# Altium footprint library A20_DVK1_BASE_V16.PcbLib: 45 footprints (part 1 of 3)
Each footprint in its own frame and in the unit in brackets; x right, y up, seen from the top. Pads: shape width x height; smd on the part's side, far side on the other; paste and mask are expansions set on the pad; w line width, h text height; cw(c..) or ccw(c..) is an arc to the next point about the centre after c.
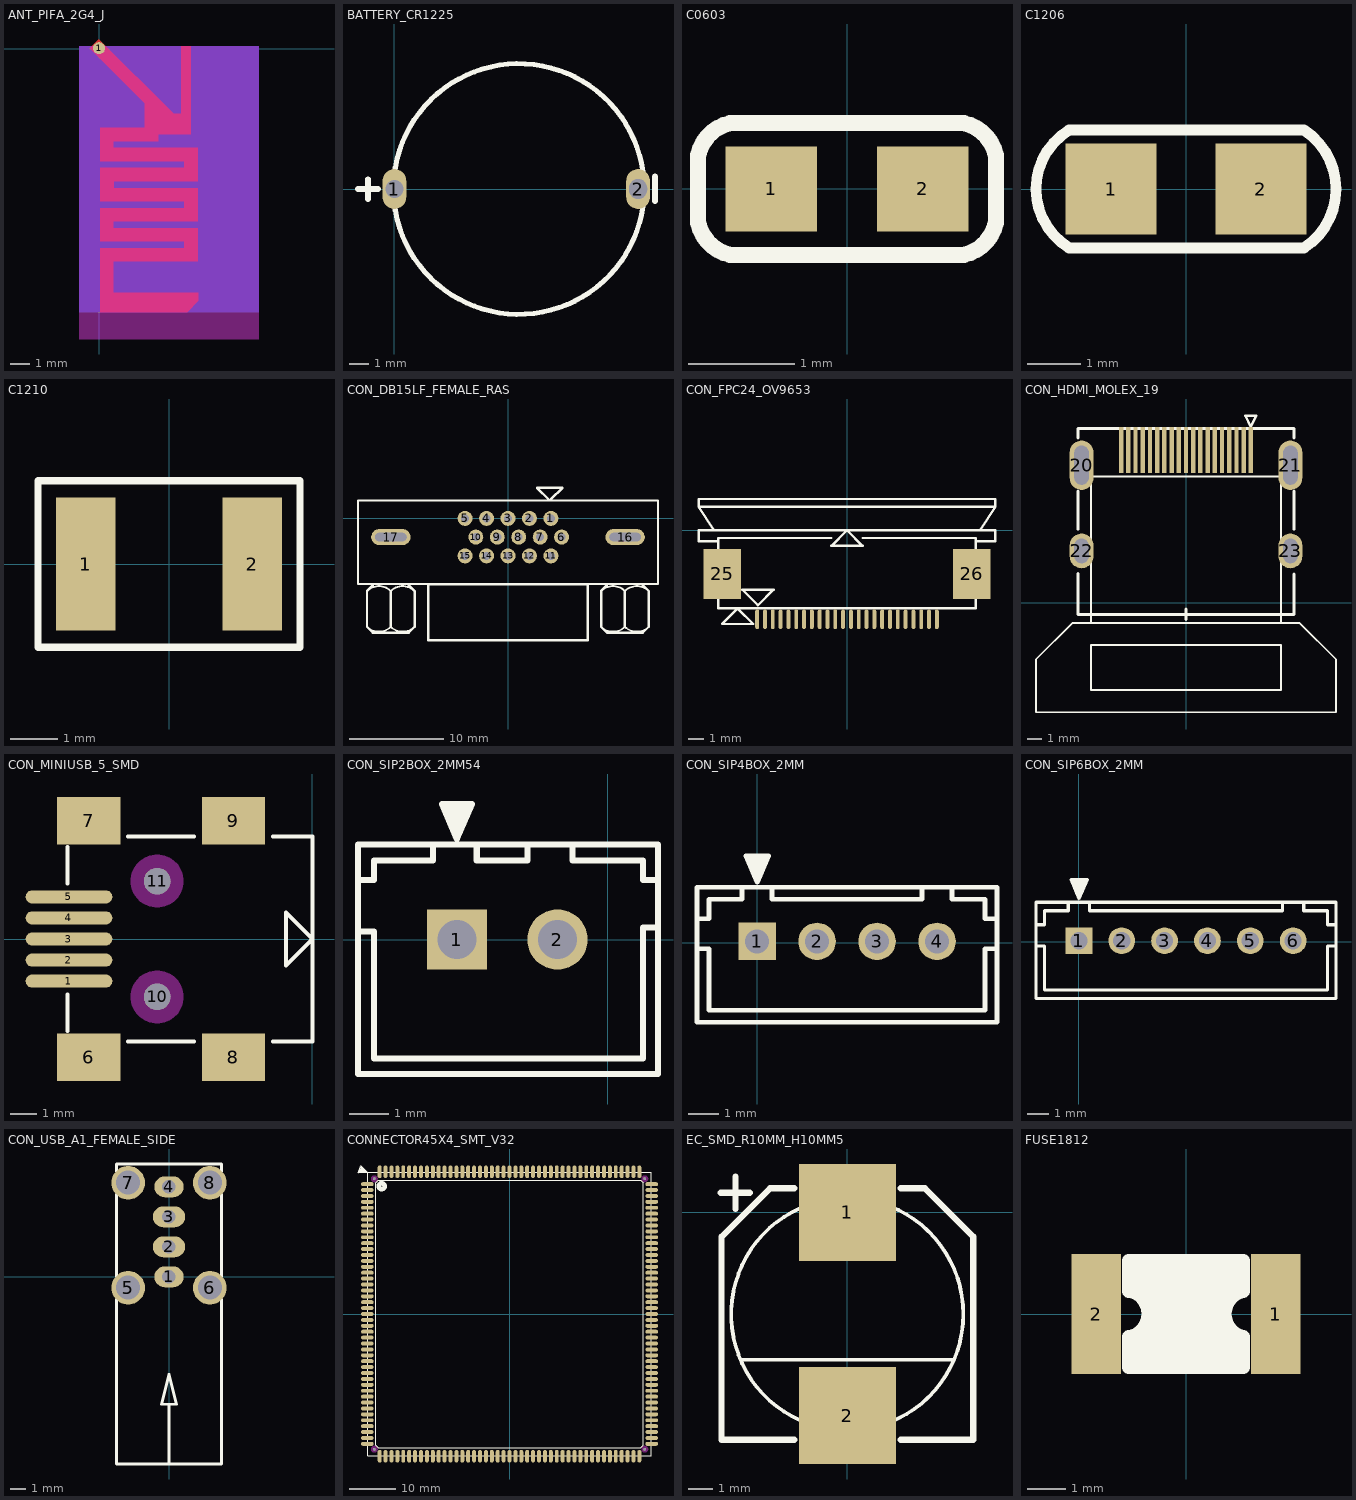
[diagram p0: the footprints below, top view; thin cyan lines are the x and y axes]

## ANT_PIFA_2G4_J [mil]
pads (1):
  round 25 smd: 1(0,1)
Top Layer:
  region: 169.88,4.87 189.85,4.87 189.85,-177.12 122.46,-177.12 122.46,-191.11 29.56,-191.11 29.56,-205.11 203.85,-205.11 203.85,-274.27 29.87,-274.27 29.87,-288.28 203.83,-288.28 203.83,-356.75 29.73,-356.75 29.73,-371.14 203.58,-371.14 203.58,-439.63 29.6,-439.63 29.6,-504.1 205.44,-504.1 205.44,-521.19 182.18,-544.45 2.07,-544.45 2.07,-412.66 176.34,-412.66 176.34,-398.28 2.12,-398.28 2.12,-329.74 176.51,-329.74 176.51,-315.77 2.3,-315.77 2.3,-246.51 176.4,-246.51 176.4,-232.71 2.16,-232.71 2.16,-163.54 94.66,-163.54 94.66,-112.48 -19.01,1.19 -0.38,19.82 154.46,-135.02 169.88,-135.02
Bottom Layer:
  region: -41,5 330,5 330,-545 -41,-545
Keep-Out Layer:
  region: -41,5 330,5 330,-600 -41,-600

## BATTERY_CR1225 [mm]
pads (2):
  oval 1.2x2 / inner oval 1x2 / far side oval 1.8x2.2 hole 0.9: 1(0,0)
  oval 1.2x2 / inner oval 1x2 / far side oval 1.8x2.2 hole 0.9 slot 1 at 90 deg: 2(12.25,0)
Top Overlay:
  circle w0.254: c6.25,0 r6.3
  lines w0.3: -1.83,-0.01 -0.83,-0.01 ; -1.33,-0.51 -1.33,0.49 ; 13.1,-0.604 13.1,0.627

## C0603 [mm]
pads (2):
  rect 0.86x0.8 smd: 1(-0.71,0) 2(0.71,0)
Top Overlay:
  lines w0.152: -1.4,-0.32 ccw(c-1.01,-0.23) -1.1,-0.62 1.1,-0.62 ccw(c1.01,-0.23) 1.4,-0.32 1.4,0.32 ccw(c1.01,0.23) 1.1,0.62 -1.1,0.62 ccw(c-1.01,0.23) -1.4,0.32 -1.4,-0.32

## C1206 [mm]
pads (2):
  rect 1.7x1.7 smd: 1(-1.4,0) 2(1.4,0)
Top Overlay:
  lines w0.203: -2.182,1.099 ccw(c-1.513,0) -2.18,-1.101 ; -2.181,-1.1 2.201,-1.1 ; -2.181,1.1 2.201,1.1 ; 2.2,-1.101 ccw(c1.491,0) 2.202,1.099

## C1210 [mm]
pads (2):
  rect 1.25x2.8 smd: 1(-1.75,0) 2(1.75,0)
Top Overlay:
  lines w0.152: -2.75,-1.75 2.75,-1.75 2.75,1.75 -2.75,1.75 -2.75,-1.75

## CON_DB15LF_FEMALE_RAS [mm]
pads (17):
  round 1.6 / inner round 1.6 / far side rect 1.6x1.6 hole 0.85: 1(4.58,0)
  round 1.6 hole 0.85: 2(2.29,0) 3(0,0) 4(-2.29,0) 5(-4.58,0) 6(5.725,-2) 7(3.435,-2) 8(1.145,-2) 9(-1.145,-2) 10(-3.435,-2) 11(4.58,-4) 12(2.29,-4) 13(0,-4) 14(-2.29,-4) 15(-4.58,-4)
  oval 4.2x1.7 / inner oval 4.2x1.7 / far side oval 4.5x2 hole 0.9 slot 3.35 at 0 deg: 16(12.495,-2) 17(-12.495,-2)
Top Overlay:
  lines w0.203: -15.049,-11.567 ccw(c-13.776,-10.295) -12.504,-11.567 -12.509,-11.567 ccw(c-11.236,-10.295) -9.964,-11.567 ; -15.049,-7.753 cw(c-13.776,-9.025) -12.504,-7.753 -12.509,-7.753 cw(c-11.236,-9.025) -9.964,-7.753 ; 9.928,-11.567 ccw(c11.2,-10.295) 12.473,-11.567 12.468,-11.567 ccw(c13.74,-10.295) 15.013,-11.567 ; 9.928,-7.753 cw(c11.2,-9.025) 12.473,-7.753 12.468,-7.753 cw(c13.74,-9.025) 15.013,-7.753
  lines w0.254: -14.411,-7.12 -15.046,-7.755 -15.046,-11.565 -14.411,-12.2 -10.601,-12.2 -9.966,-11.565 -9.966,-7.755 -10.601,-7.12 ; -12.506,-11.565 -12.506,-7.755 ; 4.4,1.95 3.1,3.25 5.8,3.25 4.6,2.05 ; 10.565,-7.12 9.93,-7.755 9.93,-11.565 10.565,-12.2 14.375,-12.2 15.01,-11.565 15.01,-7.755 14.375,-7.12 ; 12.47,-11.565 12.47,-7.755 ; -16,-7 -16,1.9 16,1.9 16,-7 -16,-7 ; -8.5,-12.99 -8.5,-7.04 8.5,-7.04 8.5,-12.99 -8.5,-12.99

## CON_FPC24_OV9653 [mm]
pads (26):
  oval 0.25x1.25 smd: 1(-5.75,-5.7) 2(-5.25,-5.7) 3(-4.75,-5.7) 4(-4.25,-5.7) 5(-3.75,-5.7) 6(-3.25,-5.7) 7(-2.75,-5.7) 8(-2.25,-5.7) 9(-1.75,-5.7) 10(-1.25,-5.7) 11(-0.75,-5.7) 12(-0.25,-5.7) 13(0.25,-5.7) 14(0.75,-5.7) 15(1.25,-5.7) 16(1.75,-5.7) 17(2.25,-5.7) 18(2.75,-5.7) 19(3.25,-5.7) 20(3.75,-5.7) 21(4.25,-5.7) 22(4.75,-5.7) 23(5.25,-5.7) 24(5.75,-5.7)
  rect 2.4x3.2 smd: 25(-8,-2.8) 26(8,-2.8)
Top Overlay:
  lines w0.152: -8.5,0 -9.5,1.5 ; -8.25,-0.7 -9.5,-0.7 -9.5,0 9.5,0 9.5,-0.7 8.25,-0.7 ; -1,-0.5 -8.25,-0.5 -8.25,-5 8.25,-5 8.25,-0.5 1,-0.5 ; 8.5,0 9.5,1.5 ; -9.5,1.5 -9.5,2 9.5,2 9.5,1.5 ; -9.5,1.5 9.5,1.5 ; -8,-6 -6,-6 -7,-5 -8,-6 ; -6.7,-3.8 -4.7,-3.8 -5.7,-4.8 -6.7,-3.8 ; -1,-1 1,-1 0,0 -1,-1

## CON_HDMI_MOLEX_19 [mm]
pads (23):
  rect 0.3x3.2 smd: 1(4.5,10.6) 2(4,10.6) 3(3.5,10.6) 4(3,10.6) 5(2.5,10.6) 6(2,10.6) 7(1.5,10.6) 8(1,10.6) 9(0.5,10.6) 10(0,10.6) 11(-0.5,10.6) 12(-1,10.6) 13(-1.5,10.6) 14(-2,10.6) 15(-2.5,10.6) 16(-3,10.6) 17(-3.5,10.6) 18(-4,10.6) 19(-4.5,10.6)
  oval 1.651x3.429 hole 1.016 slot 2.7 at 90 deg: 20(-7.25,9.55) 21(7.25,9.55)
  oval 1.651x2.413 hole 1.016 slot 1.7 at 90 deg: 22(-7.25,3.6) 23(7.25,3.6)
Top Overlay:
  lines w0.127: -10.414,-7.6 10.414,-7.6 10.414,-3.937 7.874,-1.397 -7.874,-1.397 -10.414,-3.937 -10.414,-7.6 ; -6.604,-6.05 6.604,-6.05 6.604,-2.93 -6.604,-2.93 -6.604,-6.05 ; -6.604,-1.397 6.604,-1.397 6.604,8.763 -6.604,8.763 -6.604,-1.397
  lines w0.152: 4.115,12.979 4.496,12.217 4.877,12.979 4.115,12.979
  lines w0.203: -7.5,5.1 -7.5,7.75 ; -7.493,2.032 -7.493,-0.81 7.5,-0.81 7.5,2 ; -7.493,11.43 -7.493,12.1 7.493,12.1 7.493,11.43 ; 0,-1.17 0,-0.44 ; 7.5,5.1 7.5,7.75

## CON_MINIUSB_5_SMD [mm]
pads (11):
  oval 3.3x0.5 smd: 1(-9.25,-1.6) 2(-9.25,-0.8) 3(-9.25,0) 4(-9.25,0.8) 5(-9.25,1.6)
  rect 2.4x1.8 smd: 6(-8.5,-4.5) 7(-8.5,4.5) 8(-3,-4.5) 9(-3,4.5)
  round 1 hole 1 unplated: 10(-5.9,-2.2) 11(-5.9,2.2)
Top Overlay:
  lines w0.152: -9.3,-3.5 -9.3,-2.1 ; -9.3,2.1 -9.3,3.5 ; -7,-3.9 -4.5,-3.9 ; -7,3.9 -4.5,3.9 ; -1.5,-3.9 0,-3.9 0,3.9 -1.5,3.9 ; -1,-1 -1,1 0,0 -1,-1
Keep-Out Layer:
  region: -4.9,2.2 -4.9,2.298 -4.938,2.492 -5.014,2.674 -5.123,2.837 -5.263,2.977 -5.426,3.086 -5.608,3.162 -5.802,3.2 -5.9,3.2 -5.998,3.2 -6.192,3.162 -6.374,3.086 -6.537,2.977 -6.677,2.837 -6.786,2.674 -6.862,2.492 -6.9,2.298 -6.9,2.2 -6.9,2.102 -6.862,1.908 -6.786,1.726 -6.677,1.563 -6.537,1.423 -6.374,1.314 -6.192,1.238 -5.998,1.2 -5.9,1.2 -5.802,1.2 -5.608,1.238 -5.426,1.314 -5.263,1.423 -5.123,1.563 -5.014,1.726 -4.938,1.908 -4.9,2.102
  region: -4.9,-2.2 -4.9,-2.102 -4.938,-1.908 -5.014,-1.726 -5.123,-1.563 -5.263,-1.423 -5.426,-1.314 -5.608,-1.238 -5.802,-1.2 -5.9,-1.2 -5.998,-1.2 -6.192,-1.238 -6.374,-1.314 -6.537,-1.423 -6.677,-1.563 -6.786,-1.726 -6.862,-1.908 -6.9,-2.102 -6.9,-2.2 -6.9,-2.298 -6.862,-2.492 -6.786,-2.674 -6.677,-2.837 -6.537,-2.977 -6.374,-3.086 -6.192,-3.162 -5.998,-3.2 -5.9,-3.2 -5.802,-3.2 -5.608,-3.162 -5.426,-3.086 -5.263,-2.977 -5.123,-2.837 -5.014,-2.674 -4.938,-2.492 -4.9,-2.298

## CON_SIP2BOX_2MM54 [mil]
pads (2):
  rect 60x60 / inner rect 60x60 / far side rect 75x75 hole 39: 1(-150,0)
  round 60 / inner round 60 / far side round 75 hole 39: 2(-50,0)
Top Overlay:
  lines w6: -248.43,7.87 -232.68,7.87 -232.68,-118.11 35,-118.11 35,11.81 50,11.81 ; -248.43,59.06 -232.68,59.06 -232.68,78.74 -173.62,78.74 -173.62,94.49 ; -160,125 -160,135 ; -155,115 -155,135 ; -150,105 -150,135 ; -145,115 -145,135 ; -140,125 -140,135 ; -130.31,94.49 -130.31,78.74 -80,78.74 -80,94.49 ; -35,94.49 -35,78.74 35,78.74 35,59.06 50,59.06 ; -248.43,-133.86 50,-133.86 50,94.49 -248.43,94.49 -248.43,-133.86 ; -165,135 -135,135 -150,100 -165,135

## CON_SIP4BOX_2MM [mm]
pads (4):
  rect 1.25x1.25 / inner rect 1.25x1.25 / far side rect 1.45x1.45 hole 0.8: 1(0,0.05)
  round 1.25 / inner round 1.25 / far side round 1.45 hole 0.8: 2(2,0.05) 3(4,0.05) 4(6,0.05)
Top Overlay:
  lines w0.152: -0.5,1.85 -0.5,1.45 -1.6,1.45 -1.6,0.8 -2,0.8 -2,-0.2 -1.6,-0.2 -1.6,-2.25 7.6,-2.25 7.6,-0.2 8,-0.2 8,0.8 7.6,0.8 7.6,1.45 6.5,1.45 6.5,1.85 ; -0.244,2.655 -0.244,2.909 ; -0.117,2.401 -0.117,2.909 ; 0.01,2.147 0.01,2.909 ; 0.137,2.401 0.137,2.909 ; 0.264,2.655 0.264,2.909 ; 0.5,1.85 0.5,1.45 5.5,1.45 5.5,1.85 ; -2,-2.65 8,-2.65 8,1.85 -2,1.85 -2,-2.65 ; -0.371,2.909 0.391,2.909 0.01,2.02 -0.371,2.909

## CON_SIP6BOX_2MM [mm]
pads (6):
  rect 1.25x1.25 / inner rect 1.25x1.25 / far side rect 1.45x1.45 hole 0.8: 1(0,0.05)
  round 1.25 / inner round 1.25 / far side round 1.45 hole 0.8: 2(2,0.05) 3(4,0.05) 4(6,0.05) 5(8,0.05) 6(10,0.05)
Top Overlay:
  lines w0.152: -0.5,1.85 -0.5,1.45 -1.6,1.45 -1.6,0.8 -2,0.8 -2,-0.2 -1.6,-0.2 -1.6,-2.25 11.6,-2.25 11.6,-0.2 12,-0.2 12,0.8 11.6,0.8 11.6,1.45 10.5,1.45 10.5,1.85 ; -0.244,2.655 -0.244,2.909 ; -0.117,2.401 -0.117,2.909 ; 0.01,2.147 0.01,2.909 ; 0.137,2.401 0.137,2.909 ; 0.264,2.655 0.264,2.909 ; 0.5,1.85 0.5,1.45 9.5,1.45 9.5,1.85 ; -2,-2.65 12,-2.65 12,1.85 -2,1.85 -2,-2.65 ; -0.371,2.909 0.391,2.909 0.01,2.02 -0.371,2.909

## CON_USB_A1_FEMALE_SIDE [mil]
pads (8):
  oval 77x55.12 / inner round 55.12 / far side oval 77x55.12 hole 35.43: 1(-0.43,-0.1) 4(-0.43,236.12)
  oval 85x55.12 / inner round 55.12 / far side oval 85x55.12 hole 35.43: 2(-0.43,78.64) 3(-0.43,157.38)
  round 88 / inner round 78.74 / far side round 99 hole 62.99: 5(-107.51,-28.84) 6(106.66,-28.84) 7(-107.51,246.75) 8(106.66,246.75)
Top Overlay:
  lines w7: -138.22,-58.37 -138.22,-491.44 137.37,-491.44 137.37,-58.37 ; -138.22,0.68 -138.22,217.22 ; -138.22,276.28 -138.22,295.96 137.37,295.96 137.37,276.28 ; -0.43,-491.44 -0.43,-334.75 ; 137.37,0.68 137.37,217.22 ; -20.11,-334.75 19.26,-334.75 -0.43,-256.01 -20.11,-334.75

## CONNECTOR45X4_SMT_V32 [mm]
pads (184):
  oval 2.7x0.85 smd: 1(-30.6,27.94) 2(-30.6,26.67) 3(-30.6,25.4) 4(-30.6,24.13) 5(-30.6,22.86) 6(-30.6,21.59) 7(-30.6,20.32) 8(-30.6,19.05) 9(-30.6,17.78) 10(-30.6,16.51) 11(-30.6,15.24) 12(-30.6,13.97) 13(-30.6,12.7) 14(-30.6,11.43) 15(-30.6,10.16) 16(-30.6,8.89) 17(-30.6,7.62) 18(-30.6,6.35) 19(-30.6,5.08) 20(-30.6,3.81) 21(-30.6,2.54) 22(-30.6,1.27) 23(-30.6,0) 24(-30.6,-1.27) 25(-30.6,-2.54) 26(-30.6,-3.81) 27(-30.6,-5.08) 28(-30.6,-6.35) 29(-30.6,-7.62) 30(-30.6,-8.89) 31(-30.6,-10.16) 32(-30.6,-11.43) 33(-30.6,-12.7) 34(-30.6,-13.97) 35(-30.6,-15.24) 36(-30.6,-16.51) 37(-30.6,-17.78) 38(-30.6,-19.05) 39(-30.6,-20.32) 40(-30.6,-21.59) 41(-30.6,-22.86) 42(-30.6,-24.13) 43(-30.6,-25.4) 44(-30.6,-26.67) 45(-30.6,-27.94) 91(30.6,-27.94) 92(30.6,-26.67) 93(30.6,-25.4) 94(30.6,-24.13) 95(30.6,-22.86) 96(30.6,-21.59) 97(30.6,-20.32) 98(30.6,-19.05) 99(30.6,-17.78) 100(30.6,-16.51) 101(30.6,-15.24) 102(30.6,-13.97) 103(30.6,-12.7) 104(30.6,-11.43) 105(30.6,-10.16) 106(30.6,-8.89) 107(30.6,-7.62) 108(30.6,-6.35) 109(30.6,-5.08) 110(30.6,-3.81) 111(30.6,-2.54) 112(30.6,-1.27) 113(30.6,0) 114(30.6,1.27) 115(30.6,2.54) 116(30.6,3.81) 117(30.6,5.08) 118(30.6,6.35) 119(30.6,7.62) 120(30.6,8.89) 121(30.6,10.16) 122(30.6,11.43) 123(30.6,12.7) 124(30.6,13.97) 125(30.6,15.24) 126(30.6,16.51) 127(30.6,17.78) 128(30.6,19.05) 129(30.6,20.32) 130(30.6,21.59) 131(30.6,22.86) 132(30.6,24.13) 133(30.6,25.4) 134(30.6,26.67) 135(30.6,27.94)
  oval 0.85x2.7 smd: 46(-27.94,-30.6) 47(-26.67,-30.6) 48(-25.4,-30.6) 49(-24.13,-30.6) 50(-22.86,-30.6) 51(-21.59,-30.6) 52(-20.32,-30.6) 53(-19.05,-30.6) 54(-17.78,-30.6) 55(-16.51,-30.6) 56(-15.24,-30.6) 57(-13.97,-30.6) 58(-12.7,-30.6) 59(-11.43,-30.6) 60(-10.16,-30.6) 61(-8.89,-30.6) 62(-7.62,-30.6) 63(-6.35,-30.6) 64(-5.08,-30.6) 65(-3.81,-30.6) 66(-2.54,-30.6) 67(-1.27,-30.6) 68(0,-30.6) 69(1.27,-30.6) 70(2.54,-30.6) 71(3.81,-30.6) 72(5.08,-30.6) 73(6.35,-30.6) 74(7.62,-30.6) 75(8.89,-30.6) 76(10.16,-30.6) 77(11.43,-30.6) 78(12.7,-30.6) 79(13.97,-30.6) 80(15.24,-30.6) 81(16.51,-30.6) 82(17.78,-30.6) 83(19.05,-30.6) 84(20.32,-30.6) 85(21.59,-30.6) 86(22.86,-30.6) 87(24.13,-30.6) 88(25.4,-30.6) 89(26.67,-30.6) 90(27.94,-30.6) 136(27.94,30.6) 137(26.67,30.6) 138(25.4,30.6) 139(24.13,30.6) 140(22.86,30.6) 141(21.59,30.6) 142(20.32,30.6) 143(19.05,30.6) 144(17.78,30.6) 145(16.51,30.6) 146(15.24,30.6) 147(13.97,30.6) 148(12.7,30.6) 149(11.43,30.6) 150(10.16,30.6) 151(8.89,30.6) 152(7.62,30.6) 153(6.35,30.6) 154(5.08,30.6) 155(3.81,30.6) 156(2.54,30.6) 157(1.27,30.6) 158(0,30.6) 159(-1.27,30.6) 160(-2.54,30.6) 161(-3.81,30.6) 162(-5.08,30.6) 163(-6.35,30.6) 164(-7.62,30.6) 165(-8.89,30.6) 166(-10.16,30.6) 167(-11.43,30.6) 168(-12.7,30.6) 169(-13.97,30.6) 170(-15.24,30.6) 171(-16.51,30.6) 172(-17.78,30.6) 173(-19.05,30.6) 174(-20.32,30.6) 175(-21.59,30.6) 176(-22.86,30.6) 177(-24.13,30.6) 178(-25.4,30.6) 179(-26.67,30.6) 180(-27.94,30.6)
  round 0.6 hole 0.6 unplated: 181(-29.1,29.1) 182(29.1,29.1) 183(29.1,-29.1) 184(-29.1,-29.1)
Top Overlay:
  circle w1: c-27.5,27.5 r0.632
  lines w0.2: -32.5,30.6 -32.4,30.5 ; -32.4,30.7 -32.2,30.5 ; -32.4,30.9 -32,30.5 ; -32.3,31 -31.8,30.5 ; -32.2,31.1 -31.6,30.5 ; -32.2,31.3 -31.4,30.5 ; -32.1,31.4 -31.2,30.5 ; -32.1,31.6 -30.9,30.5 ; -32,31.7 -30.8,30.6 ; -32.6,30.4 -32,31.9 -30.6,30.5 -32.6,30.4 ; -30.5,-30.5 30.5,-30.5 30.5,30.5 -30.5,30.5 -30.5,-30.5 ; -28.8,-28.2 -28.2,-28.8 28.2,-28.8 28.8,-28.2 28.8,28.2 28.2,28.8 -28.2,28.8 -28.8,28.2 -28.8,-28.2
Keep-Out Layer:
  region: -28.4,29.1 -28.4,29.169 -28.427,29.304 -28.48,29.432 -28.556,29.546 -28.654,29.644 -28.768,29.72 -28.896,29.773 -29.031,29.8 -29.1,29.8 -29.169,29.8 -29.304,29.773 -29.432,29.72 -29.546,29.644 -29.644,29.546 -29.72,29.432 -29.773,29.304 -29.8,29.169 -29.8,29.1 -29.8,29.031 -29.773,28.896 -29.72,28.768 -29.644,28.654 -29.546,28.556 -29.432,28.48 -29.304,28.427 -29.169,28.4 -29.1,28.4 -29.031,28.4 -28.896,28.427 -28.768,28.48 -28.654,28.556 -28.556,28.654 -28.48,28.768 -28.427,28.896 -28.4,29.031
  region: 29.8,29.1 29.8,29.169 29.773,29.304 29.72,29.432 29.644,29.546 29.546,29.644 29.432,29.72 29.304,29.773 29.169,29.8 29.1,29.8 29.031,29.8 28.896,29.773 28.768,29.72 28.654,29.644 28.556,29.546 28.48,29.432 28.427,29.304 28.4,29.169 28.4,29.1 28.4,29.031 28.427,28.896 28.48,28.768 28.556,28.654 28.654,28.556 28.768,28.48 28.896,28.427 29.031,28.4 29.1,28.4 29.169,28.4 29.304,28.427 29.432,28.48 29.546,28.556 29.644,28.654 29.72,28.768 29.773,28.896 29.8,29.031
  region: 29.8,-29.1 29.8,-29.031 29.773,-28.896 29.72,-28.768 29.644,-28.654 29.546,-28.556 29.432,-28.48 29.304,-28.427 29.169,-28.4 29.1,-28.4 29.031,-28.4 28.896,-28.427 28.768,-28.48 28.654,-28.556 28.556,-28.654 28.48,-28.768 28.427,-28.896 28.4,-29.031 28.4,-29.1 28.4,-29.169 28.427,-29.304 28.48,-29.432 28.556,-29.546 28.654,-29.644 28.768,-29.72 28.896,-29.773 29.031,-29.8 29.1,-29.8 29.169,-29.8 29.304,-29.773 29.432,-29.72 29.546,-29.644 29.644,-29.546 29.72,-29.432 29.773,-29.304 29.8,-29.169
  region: -28.4,-29.1 -28.4,-29.031 -28.427,-28.896 -28.48,-28.768 -28.556,-28.654 -28.654,-28.556 -28.768,-28.48 -28.896,-28.427 -29.031,-28.4 -29.1,-28.4 -29.169,-28.4 -29.304,-28.427 -29.432,-28.48 -29.546,-28.556 -29.644,-28.654 -29.72,-28.768 -29.773,-28.896 -29.8,-29.031 -29.8,-29.1 -29.8,-29.169 -29.773,-29.304 -29.72,-29.432 -29.644,-29.546 -29.546,-29.644 -29.432,-29.72 -29.304,-29.773 -29.169,-29.8 -29.1,-29.8 -29.031,-29.8 -28.896,-29.773 -28.768,-29.72 -28.654,-29.644 -28.556,-29.546 -28.48,-29.432 -28.427,-29.304 -28.4,-29.169

## EC_SMD_R10MM_H10MM5 [mm]
pads (2):
  rect 4x4 smd: 1(0,0) 2(0,-8.4)
Top Overlay:
  circle w0.152: c-0.01,-4.21 r4.798
  lines w0.152: -4.39,-6.09 4.32,-6.09
  lines w0.254: -5.24,0.81 -4.04,0.81 ; -4.63,0.14 -4.63,1.48 ; -2.2,-9.4 -5.2,-9.4 -5.2,-1 -3.2,1 -2.2,1 ; 2.2,-9.4 5.2,-9.4 5.2,-1 3.2,1 2.2,1

## FUSE1812 [mm]
pads (2):
  rect 1.3x3.15 smd: 1(2.35,0) 2(-2.35,0)
Top Overlay:
  lines w0.152: -1.4,-1.2 1.4,-1.2 ; -1.4,-1.1 1.4,-1.1 ; -1.4,-1 1.4,-1 ; -1.4,-0.9 1.4,-0.9 ; -1.4,-0.8 1.4,-0.8 ; -1.4,1 1.3,1 1.3,0.9 -1.4,0.9 -1.4,0.8 1.3,0.8 1.3,0.7 -1.3,0.7 ; -1.4,1.1 1.3,1.1 ; -1.4,1.2 1.4,1.2 ; -1.3,-0.7 1.3,-0.7 ; -1.1,-0.6 1.2,-0.6 ; -1.1,-0.5 1.1,-0.5 ; -1.1,0.5 1.2,0.5 ; -1.1,0.6 1.2,0.6 ; -1,-0.4 1,-0.4 ; -1,-0.3 1,-0.3 ; -1,0.4 1.1,0.4 ; -0.9,-0.2 0.9,-0.2 ; -0.9,-0.1 0.9,-0.1 ; -0.9,0 0.8,0 ; -0.9,0.1 0.9,0.1 ; -0.9,0.2 0.9,0.2 ; -0.9,0.3 1,0.3
  lines w0.35: -1.5,-0.6 -1.5,-1.4 1.5,-1.4 1.5,-0.6 cw(c1.637,0) 1.5,0.6 1.5,1.4 -1.5,1.4 -1.5,0.6 ; -1.471,-0.595 ccw(c-1.608,0.005) -1.471,0.605